# Altium integrated library Fuse.IntLib: 6 symbols
Pins are listed as number, name and electrical type; pins without a type are passive.

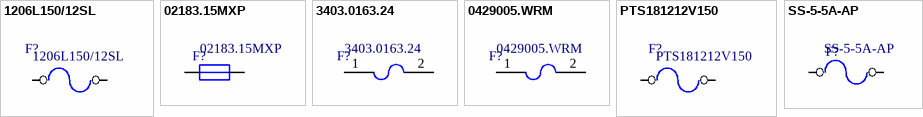
[diagram p0: symbols 1206L150/12SL to SS-5-5A-AP]

## 1206L150/12SL
designator F?  MPN: 1206L150/12SL  (hidden comment: *)
PTC RESETBLE 12V 1.5A LOW-R 1206; TYPE: Surface Mount; MFT: Littelfuse Inc.; VALUE: 1206L150/12SL
footprint F1206
pins: 1, 2

## 02183.15MXP
designator F?  MPN: 02183.15MXP  (hidden comment: *)
FUSE GLASS 3.15A 250VAC 5X20MM; MFT: Littelfuse Inc.; VALUE: 02183.15MXP; TYPE: Surface Mount
footprint Fuse 5mm x 20mm
pins: 1, 2

## 3403.0163.24
designator F?  MPN: 3403.0163.24  (hidden comment: *)
FUSE BRD MNT 500MA 250VAC 125VDC; MFT: Schurter Inc.; TYPE: Surface Mount; VALUE: 3403.0163.24
footprint 3403.0163.24
pins: 1, 2

## 0429005.WRM
designator F?  MPN: 0429005.WRM  (hidden comment: *)
FUSE BOARD MNT 5A 24VAC/VDC 1206; MFT: Littelfuse Inc.; TYPE: SMD; VALUE: 0429005.WRM; LOAD: *; RATING: *
footprint F1206
pins: 1, 2

## PTS181212V150
designator F?  MPN: PTS181212V150  (hidden comment: *)
PTC RESETTABLE SMD 1812 12V 1.5A; MFT: Eaton; TYPE: Surface Mount; VALUE: PTS181212V150
footprint F1812
pins: 1, 2

## SS-5-5A-AP
designator F?
Fuses with Leads (Through Hole) SS-5 RADIAL TD FUSE AMMO PACK; MFT: Eaton Bussmann; TYPE: Through-Hole; VALUE: 5A; MPN: SS-5-5A-AP
footprint SS-5-5A-AP
pins: 1, 2